# Altium footprint library FUSES.PcbLib: 4 footprints
Each footprint in its own frame and in the unit in brackets; x right, y up, seen from the top. Pads: shape width x height; smd on the part's side, far side on the other; paste and mask are expansions set on the pad; w line width, h text height; cw(c..) or ccw(c..) is an arc to the next point about the centre after c.
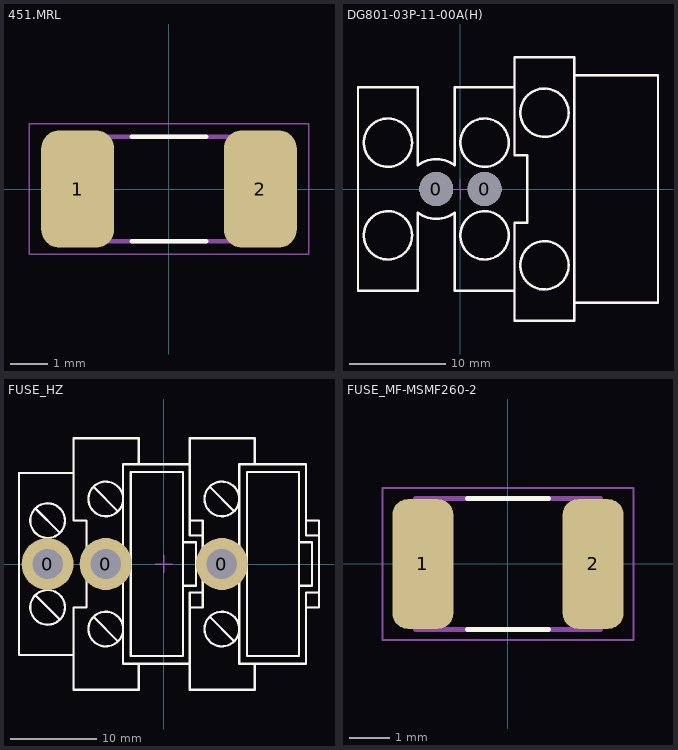
[diagram p0: the footprints below, top view; thin cyan lines are the x and y axes]

## 451.MRL [mm] "Surface Mount Fuses"
height 2.7
pads (2):
  rrect50% 1.96x3.15 smd: 1(-2.45,0) 2(2.45,0)
Top Overlay:
  lines w0.127: -1,-1.4 1,-1.4 ; -1,1.4 1,1.4
Top Assembly:
  lines w0.127: -2.275,-1.4 -2.275,1.4 2.275,1.4 2.275,-1.4 -2.275,-1.4
Top Component Outline (Mech15):
  lines w0.05: -3.75,-1.75 3.75,-1.75 3.75,1.75 -3.75,1.75 -3.75,-1.75
3D body "User Library-0452 series fuse.STEP": height 2.7, standoff 0, extent -3.05,-1.345 3.05,1.345

## DG801-03P-11-00A(H) [mm] "Колодка с держателем предохранителя"
height 4
pads (2):
  round 3.5 hole 3.5 unplated: 0(-2.5,0)
  round 3.5 hole 3.5: 0(2.5,0)
Top Overlay:
  circle w0.254: c8.7,-7.9 r2.5
  circle w0.254: c8.7,7.9 r2.5
  circle w0.254: c2.5,0 r1.6
  circle w0.254: c2.5,4.8 r2.5
  circle w0.254: c2.5,-4.8 r2.5
  circle w0.254: c-2.5,0 r1.6
  circle w0.254: c-7.5,4.8 r2.5
  circle w0.254: c-7.5,-4.8 r2.5
  lines w0.254: 11.75,13.65 5.6,13.65 5.6,10.55 ; 11.8,-6 11.8,13.65 ; 11.8,-5.549 11.8,-13.65 5.6,-13.65 5.6,-10.55 ; 11.95,-11.75 20.45,-11.75 20.45,5 ; 11.95,11.75 20.45,11.75 20.45,-5 ; 5.6,-10.55 5.6,-3.5 6.9,-3.5 6.9,3.5 5.6,3.5 5.6,10.55 ; 5.6,-10.55 -0.6,-10.55 -0.6,-2.449 cw(c-2.5,0) -4.4,-2.449 -4.4,-10.55 -10.6,-10.55 -10.6,10.55 -4.4,10.55 -4.4,2.449 cw(c-2.5,0) -0.6,2.449 -0.6,10.55 5.6,10.55
Top Assembly:
  circle w0.2: c-2.5,0 r1.6
  circle w0.2: c-7.5,4.8 r2.5
  circle w0.2: c8.7,7.9 r2.5
  circle w0.2: c2.5,0 r1.6
  circle w0.2: c2.5,4.8 r2.5
  circle w0.2: c2.5,-4.8 r2.5
  circle w0.2: c8.7,-7.9 r2.5
  circle w0.2: c-7.5,-4.8 r2.5
  lines w0.2: 11.8,-6 11.8,13.65 5.6,13.65 5.6,10.55 ; 11.8,-5.549 11.8,-13.65 5.6,-13.65 5.6,-10.55 ; 11.95,-11.75 20.45,-11.75 20.45,5 ; 11.95,11.75 20.45,11.75 20.45,-5 ; 5.6,-10.55 5.6,-3.5 6.9,-3.5 6.9,3.5 5.6,3.5 5.6,10.55 ; 5.6,-10.55 -0.6,-10.55 -0.6,-2.449 cw(c-2.5,0) -4.4,-2.449 -4.4,-10.55 -10.6,-10.55 -10.6,10.55 -4.4,10.55 -4.4,2.449 cw(c-2.5,0) -0.6,2.449 -0.6,10.55 5.6,10.55
Top Component Outline (Mech15):
  lines w0.1: -1,0 0,0 0,1 ; 0.029,-1.048 0.029,-0.048 1.029,-0.048
3D body "terminal_blocks_a-tb100-tm03.stp": height 30.6, standoff -1, extent -10.837,-13.703 19.29,14.004

## FUSE_HZ [mm] "Колодка с держателем предохранителя"
height 4
pads (3):
  round 6 hole 3.5 unplated mask-25.4: 0(-13.4,0) 0(-6.7,0) 0(6.7,0)
Top Overlay:
  circle w0.254: c6.7,7.5 r2
  circle w0.254: c6.7,0 r1.05
  circle w0.254: c-6.7,7.5 r2
  circle w0.254: c-6.7,0 r1.05
  circle w0.254: c-6.7,-7.5 r2
  circle w0.254: c-13.4,5 r2
  circle w0.254: c-13.4,0 r1.55
  circle w0.254: c-13.4,-5 r2
  circle w0.254: c6.7,-7.5 r2
  lines w0.254: -14.8,-3.6 -12,-6.4 ; -14.8,6.4 -12,3.6 ; -8.1,-6.1 -5.3,-8.9 ; -8.1,8.9 -5.3,6.1 ; 2.2,-2.5 3.7,-2.5 3.7,2.5 2.2,2.5 ; 3,-5 4.5,-5 4.5,5 3,5 ; 4.5,-3.3 3,-3.3 3,-14.5 ; 4.5,3.3 3,3.3 3,14.5 ; 5.3,-6.1 8.1,-8.9 ; 5.3,8.9 8.1,6.1 ; 15.6,-2.5 17.1,-2.5 17.1,2.5 15.6,2.5 ; 17.9,-3.3 16.4,-3.3 16.4,-11.5 ; 17.9,3.3 16.4,3.3 16.4,11.5 ; -16.7,-10.5 -16.7,10.5 ; -16.7,-10.5 -10.4,-10.5 ; -16.7,-10.5 -10.4,-10.5 ; -16.7,-10.5 -16.7,10.5 ; -16.7,10.5 -10.4,10.5 ; -16.7,10.5 -16.7,10.5 ; -16.7,10.5 -10.4,10.5 ; -10.4,-14.5 -10.4,-5 -8.9,-5 -8.9,5 -10.4,5 -10.4,14.5 ; -10.4,-14.5 -2.9,-14.5 ; -10.4,-14.5 -2.9,-14.5 ; -10.4,-14.5 -10.4,-14.5 ; -10.4,-14.5 -10.4,-10.5 ; -10.4,10.5 -10.4,14.5 ; -10.4,14.5 -2.9,14.5 ; -10.4,14.5 -2.9,14.5 ; -2.9,-14.5 -2.9,-11.5 ; -2.9,-14.5 -2.9,-11.5 ; -2.9,-11.5 3,-11.5 ; -2.9,11.5 -2.9,14.5 ; -2.9,11.5 -2.9,14.5 ; -2.9,11.5 3,11.5 ; 3,-14.5 10.5,-14.5 ; 3,-14.5 10.5,-14.5 ; 3,-14.5 3,-11.5 ; 3,-11.5 -4.7,-11.5 -4.7,11.5 3,11.5 ; 3,11.5 3,14.5 ; 3,14.5 10.5,14.5 ; 3,14.5 10.5,14.5 ; 10.5,-14.5 10.5,-11.5 ; 10.5,-14.5 10.5,-11.5 ; 10.5,-11.5 16.4,-11.5 ; 10.5,-11.5 10.5,-11.5 ; 10.5,11.5 10.5,14.5 ; 10.5,11.5 10.5,14.5 ; 10.5,11.5 16.4,11.5 ; 10.5,14.5 10.5,14.5 ; 16.4,-11.5 8.7,-11.5 8.7,11.5 16.4,11.5 ; 16.4,-11.5 16.4,-5 ; 16.4,-5 17.9,-5 ; 16.4,-5 17.9,-5 ; 16.4,5 17.9,5 ; 16.4,5 16.4,11.5 ; 16.4,5 17.9,5 ; 17.9,-5 17.9,5 ; 17.9,-5 17.9,5 ; -3.8,-10.6 -3.8,10.6 2.2,10.6 2.2,-10.6 -3.8,-10.6 ; 9.6,-10.6 15.6,-10.6 15.6,10.6 9.6,10.6 9.6,-10.6
Top Solder:
  region: -13.4,3.11 -13.886,3.071 -14.361,2.957 -14.812,2.771 -15.228,2.516 -15.599,2.199 -15.916,1.828 -16.171,1.412 -16.357,0.961 -16.471,0.486 -16.51,0 -16.471,-0.486 -16.357,-0.961 -16.171,-1.412 -15.916,-1.828 -15.599,-2.199 -15.228,-2.516 -14.812,-2.771 -14.361,-2.957 -13.886,-3.071 -13.4,-3.11 -12.914,-3.071 -12.439,-2.957 -11.988,-2.771 -11.572,-2.516 -11.201,-2.199 -10.884,-1.828 -10.629,-1.412 -10.443,-0.961 -10.329,-0.486 -10.29,0 -10.329,0.486 -10.443,0.961 -10.629,1.412 -10.884,1.828 -11.201,2.199 -11.572,2.516 -11.988,2.771 -12.439,2.957 -12.914,3.071
  region: -6.7,3.11 -7.186,3.071 -7.661,2.957 -8.112,2.771 -8.528,2.516 -8.899,2.199 -9.216,1.828 -9.471,1.412 -9.657,0.961 -9.771,0.486 -9.81,0 -9.771,-0.486 -9.657,-0.961 -9.471,-1.412 -9.216,-1.828 -8.899,-2.199 -8.528,-2.516 -8.112,-2.771 -7.661,-2.957 -7.186,-3.071 -6.7,-3.11 -6.214,-3.071 -5.739,-2.957 -5.288,-2.771 -4.872,-2.516 -4.501,-2.199 -4.184,-1.828 -3.929,-1.412 -3.743,-0.961 -3.629,-0.486 -3.59,0 -3.629,0.486 -3.743,0.961 -3.929,1.412 -4.184,1.828 -4.501,2.199 -4.872,2.516 -5.288,2.771 -5.739,2.957 -6.214,3.071
  region: 6.7,3.11 6.214,3.071 5.739,2.957 5.288,2.771 4.872,2.516 4.501,2.199 4.184,1.828 3.929,1.412 3.743,0.961 3.629,0.486 3.59,0 3.629,-0.486 3.743,-0.961 3.929,-1.412 4.184,-1.828 4.501,-2.199 4.872,-2.516 5.288,-2.771 5.739,-2.957 6.214,-3.071 6.7,-3.11 7.186,-3.071 7.661,-2.957 8.112,-2.771 8.528,-2.516 8.899,-2.199 9.216,-1.828 9.471,-1.412 9.657,-0.961 9.771,-0.486 9.81,0 9.771,0.486 9.657,0.961 9.471,1.412 9.216,1.828 8.899,2.199 8.528,2.516 8.112,2.771 7.661,2.957 7.186,3.071
Bottom Solder:
  region: -13.4,3.11 -13.886,3.071 -14.361,2.957 -14.812,2.771 -15.228,2.516 -15.599,2.199 -15.916,1.828 -16.171,1.412 -16.357,0.961 -16.471,0.486 -16.51,0 -16.471,-0.486 -16.357,-0.961 -16.171,-1.412 -15.916,-1.828 -15.599,-2.199 -15.228,-2.516 -14.812,-2.771 -14.361,-2.957 -13.886,-3.071 -13.4,-3.11 -12.914,-3.071 -12.439,-2.957 -11.988,-2.771 -11.572,-2.516 -11.201,-2.199 -10.884,-1.828 -10.629,-1.412 -10.443,-0.961 -10.329,-0.486 -10.29,0 -10.329,0.486 -10.443,0.961 -10.629,1.412 -10.884,1.828 -11.201,2.199 -11.572,2.516 -11.988,2.771 -12.439,2.957 -12.914,3.071
  region: -6.7,3.11 -7.186,3.071 -7.661,2.957 -8.112,2.771 -8.528,2.516 -8.899,2.199 -9.216,1.828 -9.471,1.412 -9.657,0.961 -9.771,0.486 -9.81,0 -9.771,-0.486 -9.657,-0.961 -9.471,-1.412 -9.216,-1.828 -8.899,-2.199 -8.528,-2.516 -8.112,-2.771 -7.661,-2.957 -7.186,-3.071 -6.7,-3.11 -6.214,-3.071 -5.739,-2.957 -5.288,-2.771 -4.872,-2.516 -4.501,-2.199 -4.184,-1.828 -3.929,-1.412 -3.743,-0.961 -3.629,-0.486 -3.59,0 -3.629,0.486 -3.743,0.961 -3.929,1.412 -4.184,1.828 -4.501,2.199 -4.872,2.516 -5.288,2.771 -5.739,2.957 -6.214,3.071
  region: 6.7,3.11 6.214,3.071 5.739,2.957 5.288,2.771 4.872,2.516 4.501,2.199 4.184,1.828 3.929,1.412 3.743,0.961 3.629,0.486 3.59,0 3.629,-0.486 3.743,-0.961 3.929,-1.412 4.184,-1.828 4.501,-2.199 4.872,-2.516 5.288,-2.771 5.739,-2.957 6.214,-3.071 6.7,-3.11 7.186,-3.071 7.661,-2.957 8.112,-2.771 8.528,-2.516 8.899,-2.199 9.216,-1.828 9.471,-1.412 9.657,-0.961 9.771,-0.486 9.81,0 9.771,0.486 9.657,0.961 9.471,1.412 9.216,1.828 8.899,2.199 8.528,2.516 8.112,2.771 7.661,2.957 7.186,3.071
Top Component Outline:
  circle w0.254: c-13.4,0 r1.7
  circle w0.254: c-6.7,0 r1.7
  circle w0.254: c6.7,0 r1.7
  lines w0.15: -1,0 1,0 ; 0,-1 0,1
Top Assembly:
  circle w0.15: c6.7,7.5 r2
  circle w0.15: c6.7,0 r1.05
  circle w0.15: c6.7,-7.5 r2
  circle w0.15: c-6.7,7.5 r2
  circle w0.15: c-13.4,5 r2
  circle w0.15: c-13.4,0 r1.55
  circle w0.15: c-6.7,0 r1.05
  circle w0.15: c-13.4,-5 r2
  circle w0.15: c-6.7,-7.5 r2
  lines w0.15: -14.8,-3.6 -12,-6.4 ; -14.8,6.4 -12,3.6 ; -10.4,-10.5 -16.7,-10.5 -16.7,10.5 -10.4,10.5 ; -8.1,-6.1 -5.3,-8.9 ; -8.1,8.9 -5.3,6.1 ; -2.9,-11.5 -2.9,-14.5 -10.4,-14.5 -10.4,-5 -8.9,-5 -8.9,5 -10.4,5 -10.4,14.5 -2.9,14.5 -2.9,11.5 ; 2.2,-2.5 3.7,-2.5 3.7,2.5 2.2,2.5 ; 3,-11.5 -4.7,-11.5 -4.7,11.5 3,11.5 ; 3,-5 4.5,-5 4.5,5 3,5 ; 4.5,-3.3 3,-3.3 3,-14.5 10.5,-14.5 10.5,-11.5 ; 4.5,3.3 3,3.3 3,14.5 10.5,14.5 10.5,11.5 ; 5.3,-6.1 8.1,-8.9 ; 5.3,8.9 8.1,6.1 ; 15.6,-2.5 17.1,-2.5 17.1,2.5 15.6,2.5 ; 16.4,-5 17.9,-5 17.9,5 16.4,5 ; 17.9,-3.3 16.4,-3.3 16.4,-11.5 8.7,-11.5 8.7,11.5 16.4,11.5 16.4,3.3 17.9,3.3 ; -3.8,-10.6 -3.8,10.6 2.2,10.6 2.2,-10.6 -3.8,-10.6 ; 9.6,-10.6 9.6,10.6 15.6,10.6 15.6,-10.6 9.6,-10.6
3D body: height 10, standoff 0, extent -16.699,-10.499 -8.901,10.499
3D body: height 18.8, standoff 0, extent -4.699,-11.499 4.499,11.499
3D body: height 12, standoff 0, extent 3.001,-14.499 10.499,14.499
3D body: height 18.8, standoff 0, extent 8.701,-11.499 17.899,11.499
3D body: height 12, standoff 0, extent -10.399,-14.499 -2.901,14.499
3D body: height 18.8, standoff 0, extent 8.701,-11.499 17.899,11.499

## FUSE_MF-MSMF260-2 [mm]
pads (2):
  rrect50% 1.5x3.2 smd: 1(-2.1,0) 2(2.1,0)
Top Overlay:
  lines w0.127: -1,-1.62 1,-1.62 ; -1,1.62 1,1.62
Top Assembly:
  lines w0.127: -2.275,-1.62 -2.275,1.62 2.275,1.62 2.275,-1.62 -2.275,-1.62
Top Component Outline (Mech15):
  lines w0.05: -3.1,-1.87 -3.1,1.87 3.1,1.87 3.1,-1.87 -3.1,-1.87
3D body "User Library-MF-MSMFXXX.STEP": height 0.74, standoff 0.04, extent -2.275,-1.62 2.275,1.62